# Altium schematic symbol library Maxim_MAX9923F_current_sense_opamp.SchLib: 1 symbol
Pins are listed as number, name and electrical type; pins without a type are passive.

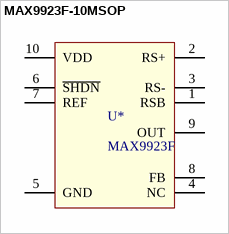
[diagram p0: symbol MAX9923F-10MSOP]

## MAX9923F-10MSOP
designator U*, comment MAX9923F
IC OPAMP CURR SENS 2.5KHZ 250V/V GAIN; Supplier 1: Digi-Key; Supplier Part Number 1: MAX9923FEUB+-ND
footprint TSSOP50P490X110-10N (TSSOP, 10-Leads, Body 3.00x3.00mm, Pitch 0.50mm, IPC Medium Density)
pins: 1 RSB, 2 RS+ (power), 3 RS- (power), 4 NC, 5 GND, 6 ~{SHDN}, 7 REF, 8 FB, 9 OUT, 10 VDD